# Altium footprint library IM03DGR.PcbLib: 1 footprints
Each footprint in its own frame and in the unit in brackets; x right, y up, seen from the top. Pads: shape width x height; smd on the part's side, far side on the other; paste and mask are expansions set on the pad; w line width, h text height; cw(c..) or ccw(c..) is an arc to the next point about the centre after c.
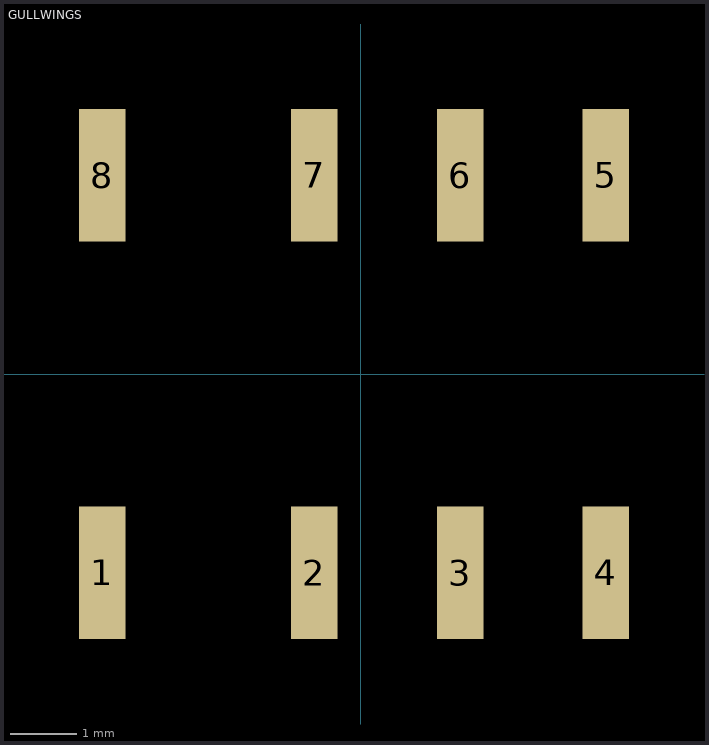
[diagram p0: the footprint, top view; thin cyan lines are the x and y axes]

## GULLWINGS [mm]
pads (8):
  rect 0.7x2 smd: 1(-3.9,-3) 2(-0.7,-3) 3(1.5,-3) 4(3.7,-3) 5(3.7,3) 6(1.5,3) 7(-0.7,3) 8(-3.9,3)